# Altium footprint library screwire.PcbLib: 148 footprints (part 8 of 10)
Each footprint in its own frame and in the unit in brackets; x right, y up, seen from the top. Pads: shape width x height; smd on the part's side, far side on the other; paste and mask are expansions set on the pad; w line width, h text height; cw(c..) or ccw(c..) is an arc to the next point about the centre after c.
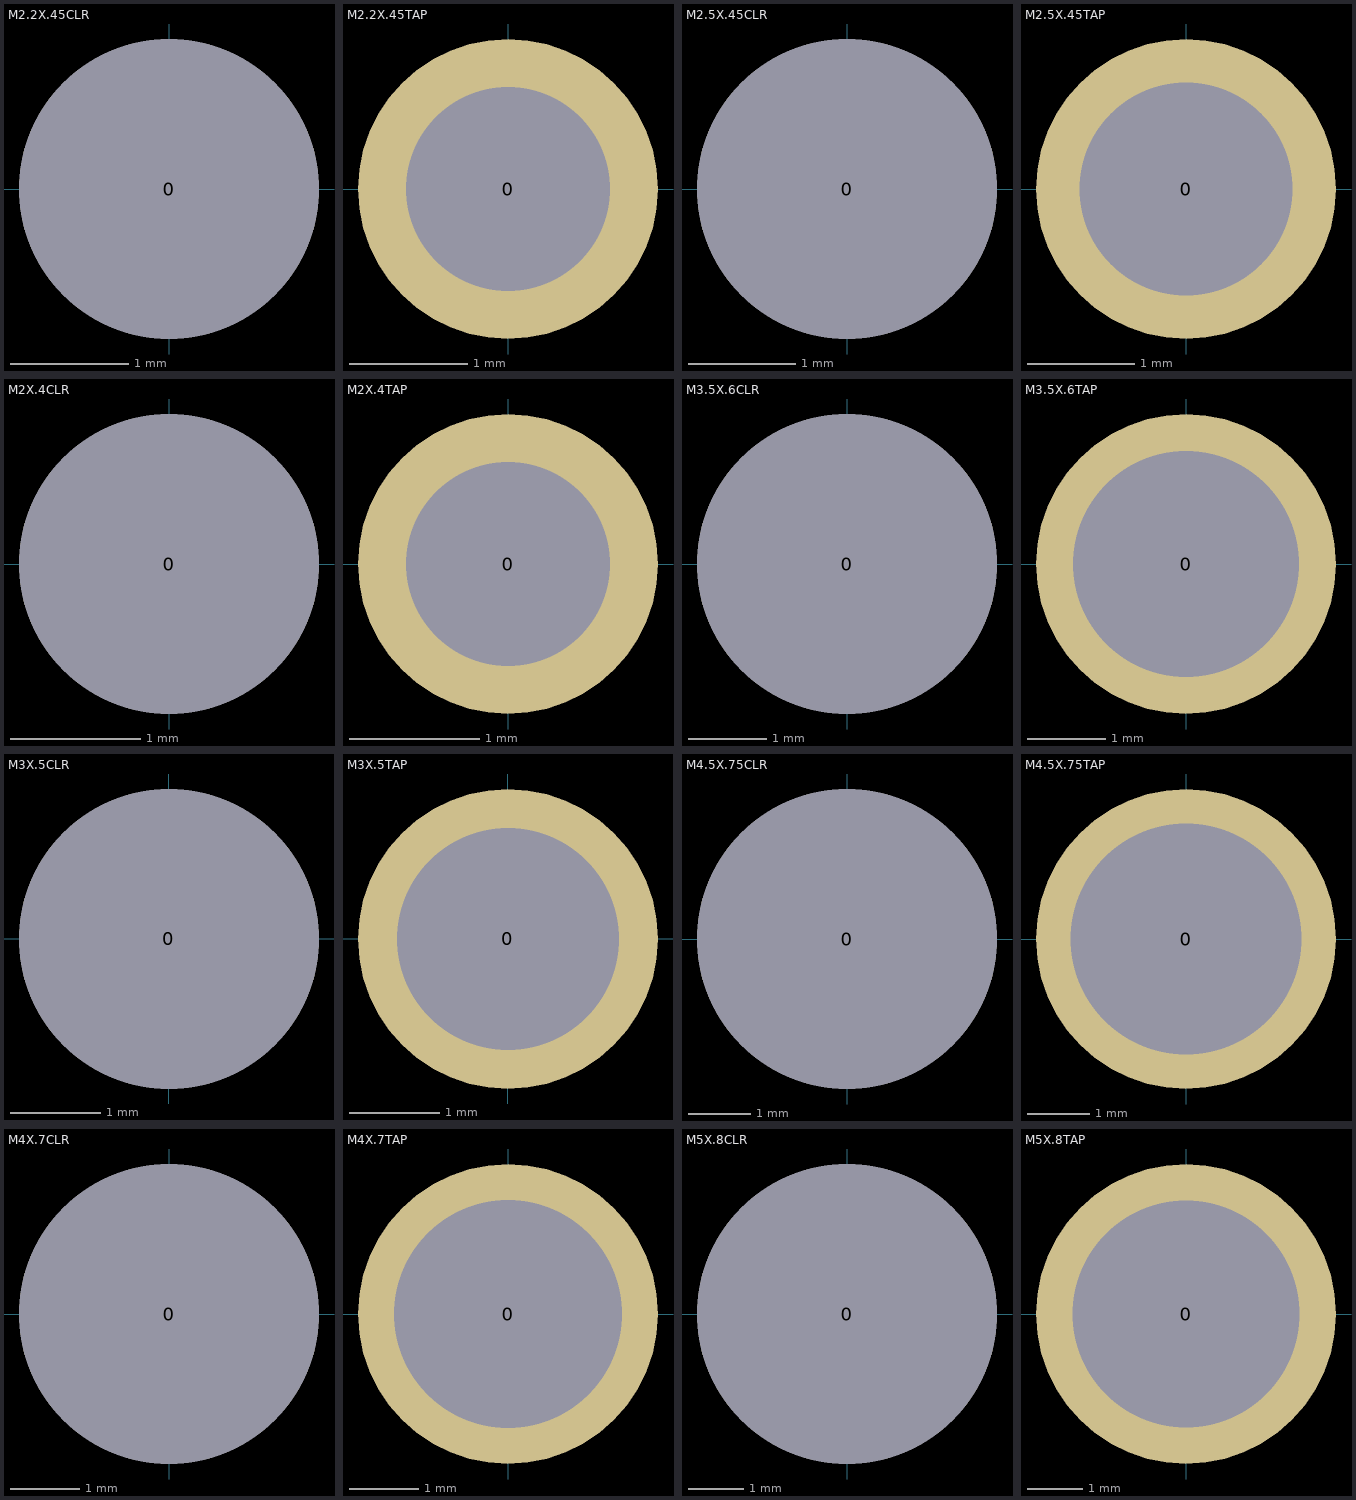
[diagram p7: the footprints below, top view; thin cyan lines are the x and y axes]

## M2.2X.45CLR [mil]
pads (1):
  round 100 hole 100: 0(0,0)

## M2.2X.45TAP [mil]
pads (1):
  round 100 hole 68: 0(0,0)

## M2.5X.45CLR [mil]
pads (1):
  round 110 hole 110: 0(0,0)

## M2.5X.45TAP [mil]
pads (1):
  round 110 hole 78: 0(0,0)

## M2X.4CLR [mil]
pads (1):
  round 91 hole 91: 0(0,0)

## M2X.4TAP [mil]
pads (1):
  round 91 hole 62: 0(0,0)

## M3.5X.6CLR [mil]
pads (1):
  round 150 hole 150: 0(0,0)

## M3.5X.6TAP [mil]
pads (1):
  round 150 hole 113: 0(0,0)

## M3X.5CLR [mil]
pads (1):
  round 130 hole 130: 0(0,0)

## M3X.5TAP [mil]
pads (1):
  round 130 hole 96: 0(0,0)

## M4.5X.75CLR [mil]
pads (1):
  round 190 hole 190: 0(0,0)

## M4.5X.75TAP [mil]
pads (1):
  round 190 hole 146: 0(0,0)

## M4X.7CLR [mil]
pads (1):
  round 170 hole 170: 0(0,0)

## M4X.7TAP [mil]
pads (1):
  round 170 hole 129: 0(0,0)

## M5X.8CLR [mil]
pads (1):
  round 213 hole 213: 0(0,0)

## M5X.8TAP [mil]
pads (1):
  round 213 hole 161: 0(0,0)